# Altium footprint library PcbLib1.PcbLib: 29 footprints (part 1 of 2)
Each footprint in its own frame and in the unit in brackets; x right, y up, seen from the top. Pads: shape width x height; smd on the part's side, far side on the other; paste and mask are expansions set on the pad; w line width, h text height; cw(c..) or ccw(c..) is an arc to the next point about the centre after c.
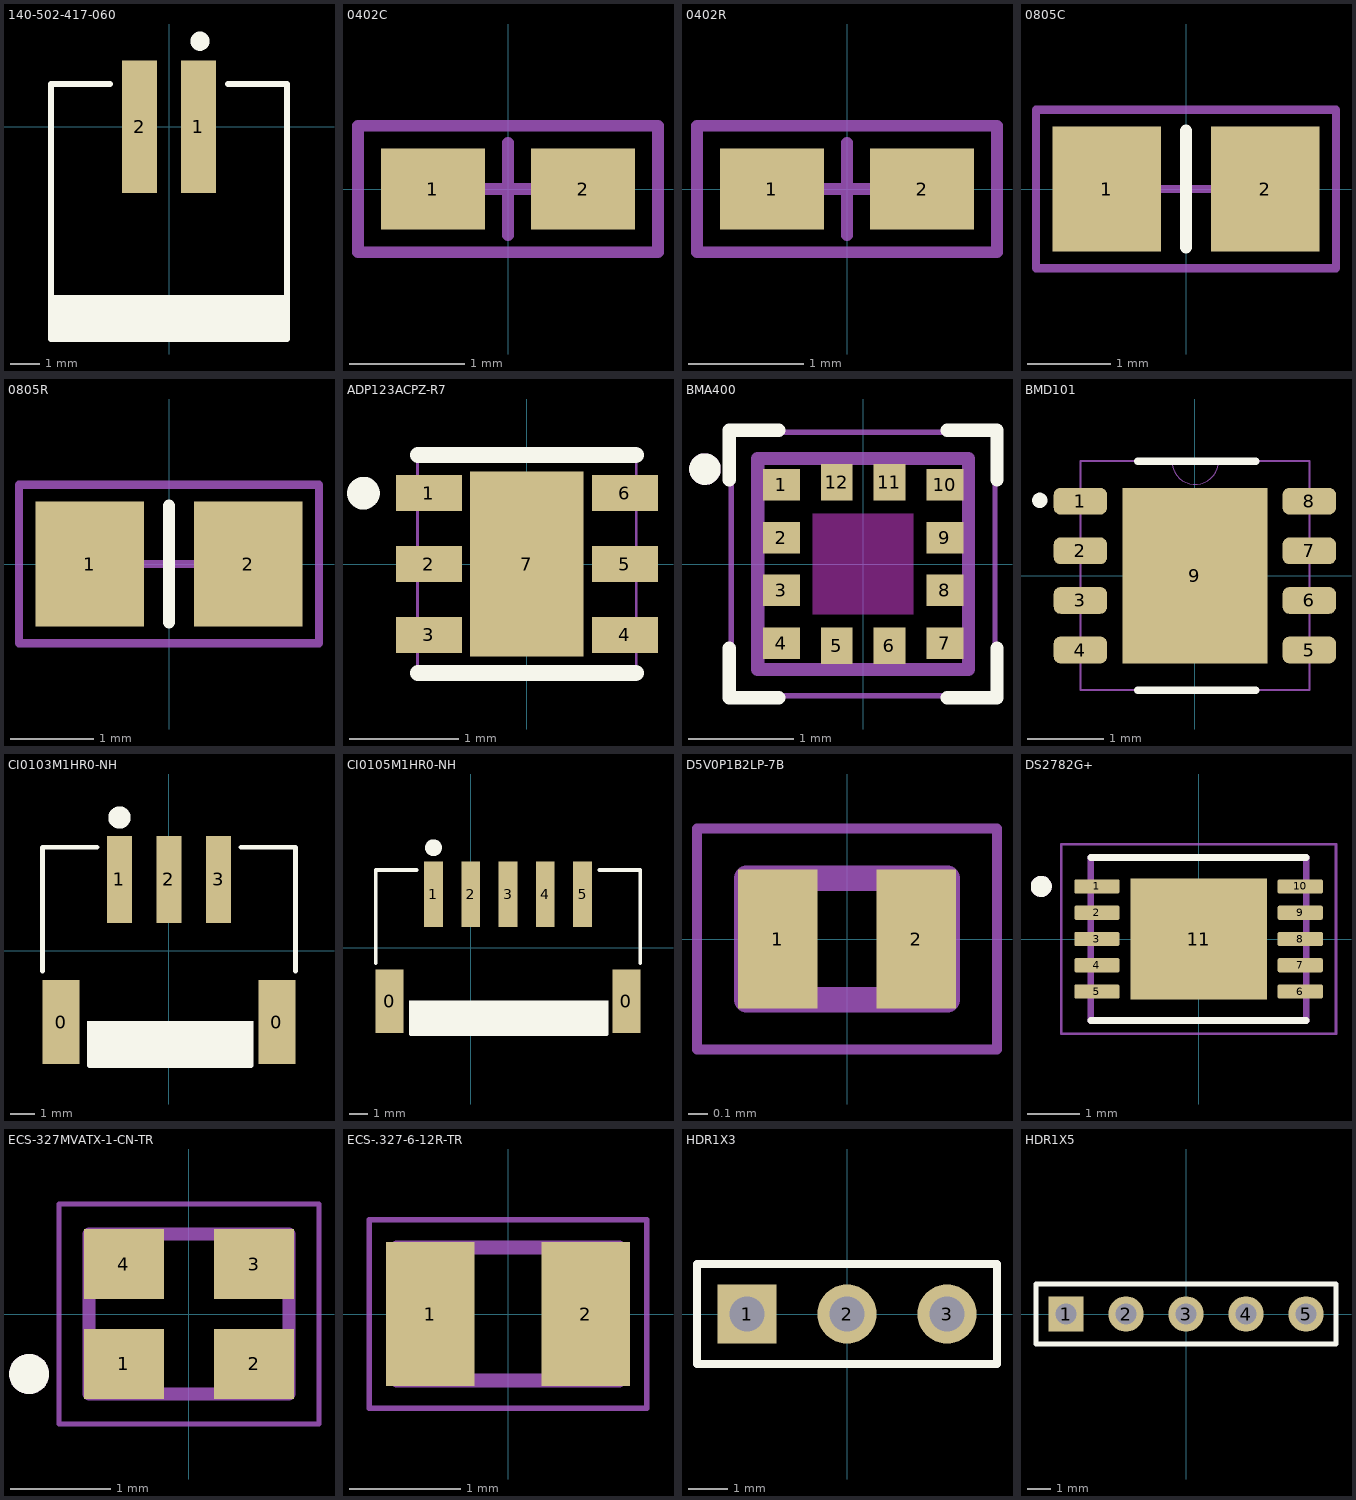
[diagram p0: the footprints below, top view; thin cyan lines are the x and y axes]

## 140-502-417-060 [mm]
pads (2):
  rect 1.2x4.5 smd: 1(1,0) 2(-1,0)
Top Overlay:
  circle w0.5: c1.05,2.9 r0.075
  rectangle: -4,-7.2 3.95,-5.7
  lines w0.2: -2,1.45 -4,1.45 -4,-7.2 4,-7.2 4,1.45 2,1.45
3D body "CON_2P_140-502-417-060.STEP": height 5.63, standoff 0.13, extent -4,-7.2 4,1.45

## 0402C [mm]
height 0.6
pads (2):
  rect 0.9x0.7 smd: 1(-0.65,0) 2(0.65,0)
Mechanical 5:
  lines w0.1: -1.3,-0.55 -1.3,0.55 1.3,0.55 1.3,-0.55 -1.3,-0.55
Mechanical 15:
  lines w0.1: -0.475,0 0.475,0 ; 0,-0.4 0,0.4 ; -1.3,-0.55 1.3,-0.55 1.3,0.55 -1.3,0.55 -1.3,-0.55
3D body "BO_CR0402.step": height 0.41, standoff 0, extent -0.559,-0.279 0.559,0.279

## 0402R [mm]
height 0.6
pads (2):
  rect 0.9x0.7 smd: 1(-0.65,0) 2(0.65,0)
Mechanical 5:
  lines w0.1: -1.3,-0.55 -1.3,0.55 1.3,0.55 1.3,-0.55 -1.3,-0.55
Mechanical 15:
  lines w0.1: -0.475,0 0.475,0 ; 0,-0.4 0,0.4 ; -1.3,-0.55 1.3,-0.55 1.3,0.55 -1.3,0.55 -1.3,-0.55
3D body "BO_CR0402.step": height 0.41, standoff 0, extent -0.559,-0.279 0.559,0.279

## 0805C [mm]
height 4.7
pads (2):
  rect 1.3x1.5 smd: 1(-0.95,0) 2(0.95,0)
Top Overlay:
  lines w0.15: 0,-0.7 0,0.7
Mechanical 5:
  lines w0.1: -1.8,-0.95 1.8,-0.95 1.8,0.95 -1.8,0.95 -1.8,-0.95
Mechanical 15:
  lines w0.1: -0.5,0 0.5,0 ; 0,-0.5 0,0.5 ; -1.8,-0.95 -1.8,0.95 1.8,0.95 1.8,-0.95 -1.8,-0.95

## 0805R [mm]
height 4.7
pads (2):
  rect 1.3x1.5 smd: 1(-0.95,0) 2(0.95,0)
Top Overlay:
  lines w0.15: 0,-0.7 0,0.7
Mechanical 5:
  lines w0.1: -1.8,-0.95 -1.8,0.95 1.8,0.95 1.8,-0.95 -1.8,-0.95
Mechanical 15:
  lines w0.1: -0.5,0 0.5,0 ; 0,-0.5 0,0.5 ; -1.8,-0.95 1.8,-0.95 1.8,0.95 -1.8,0.95 -1.8,-0.95

## ADP123ACPZ-R7 [mm]
pads (7):
  rect 0.606x0.331 smd paste+0 mask+0.03: 1(-0.9,0.65) 2(-0.9,0) 3(-0.9,-0.65) 4(0.9,-0.65) 5(0.9,0) 6(0.9,0.65)
  rect 1.041x1.702 smd paste+0 mask+0.03: 7(0,0)
Top Overlay:
  circle w0.2: c-1.5,0.65 r0.05
  lines w0.15: -1,-1 1,-1 ; -1,1 1,1
Mechanical 13:
  lines w0.025: -1.003,-1.003 -1.003,1.003 1.003,1.003 1.003,-1.003 -1.003,-1.003 ; -1.003,-0.828 -1.003,-0.472 -1.003,-0.828 ; -1.003,-0.178 -1.003,0.178 -1.003,-0.178 ; -1.003,0.472 -1.003,0.828 -1.003,0.472 ; 1.003,-0.828 1.003,-0.472 1.003,-0.828 ; 1.003,-0.178 1.003,0.178 1.003,-0.178 ; 1.003,0.472 1.003,0.828 1.003,0.472
3D body "CP_6_3_ADI.step": height 0.6, standoff 0, extent -1,-0.978 1.006,0.978

## BMA400 [mm]
pads (12):
  rect 0.35x0.3 smd paste+0 mask+0.05: 1(-0.775,0.75) 2(-0.775,0.25) 3(-0.775,-0.25) 4(-0.775,-0.75) 7(0.775,-0.75) 8(0.775,-0.25) 9(0.775,0.25) 10(0.775,0.75)
  rect 0.3x0.35 smd paste+0 mask+0.05: 5(-0.25,-0.775) 6(0.25,-0.775) 11(0.25,0.775) 12(-0.25,0.775)
Top Overlay:
  circle w0.15: c-1.5,0.9 r0.075
  lines w0.127: -1.27,-0.8 -1.27,-1.27 -0.8,-1.27 ; -1.27,0.8 -1.27,1.27 -0.8,1.27 ; 0.8,-1.27 1.27,-1.27 1.27,-0.8 ; 0.8,1.27 1.27,1.27 1.27,0.8
Top Paste:
  region: 0.375,0.625 0.125,0.625 0.125,0.925 0.375,0.925
  region: -0.125,0.625 -0.375,0.625 -0.375,0.925 -0.125,0.925
  region: 0.375,-0.925 0.125,-0.925 0.125,-0.625 0.375,-0.625
  region: -0.125,-0.925 -0.375,-0.925 -0.375,-0.625 -0.125,-0.625
  region: 0.925,-0.875 0.625,-0.875 0.625,-0.625 0.925,-0.625
  region: 0.925,-0.375 0.625,-0.375 0.625,-0.125 0.925,-0.125
  region: 0.925,0.125 0.625,0.125 0.625,0.375 0.925,0.375
  region: 0.925,0.625 0.625,0.625 0.625,0.875 0.925,0.875
  region: -0.625,0.625 -0.925,0.625 -0.925,0.875 -0.625,0.875
  region: -0.625,0.125 -0.925,0.125 -0.925,0.375 -0.625,0.375
  region: -0.625,-0.375 -0.925,-0.375 -0.925,-0.125 -0.625,-0.125
  region: -0.625,-0.875 -0.925,-0.875 -0.925,-0.625 -0.625,-0.625
Keep-Out Layer:
  region: 0.475,-0.475 -0.475,-0.475 -0.475,0.475 0.475,0.475
  region: 0.475,-0.475 -0.475,-0.475 -0.475,0.475 0.475,0.475
Mechanical 13:
  circle w0.15: c-1.5,0.9 r0.075
  lines w0.127: -1,-1 -1,1 1,1 1,-1 -1,-1
Mechanical 15:
  lines w0.05: -1.25,-1.25 -1.25,1.25 1.25,1.25 1.25,-1.25 -1.25,-1.25
3D body "BMA400.STEP": height 1, standoff 0, extent -0.99,-1.01 1.01,0.99

## BMD101 [mm]
pads (9):
  rrect50% 0.7x0.35 smd paste+0 mask+0.05: 1(-1.5,0.975) 2(-1.5,0.325) 3(-1.5,-0.325) 4(-1.5,-0.975) 5(1.5,-0.975) 6(1.5,-0.325) 7(1.5,0.325) 8(1.5,0.975)
  rect 1.9x2.3 smd paste+0 mask+0.05: 9(0,0)
Top Overlay:
  circle w0.1: c-2.032,0.987 r0.05
  lines w0.1: -0.75,-1.5 0.799,-1.5 ; -0.75,1.5 0.799,1.5
Mechanical 13:
  lines w0: -0.3,1.5 ccw(c0.005,1.5) 0.31,1.5
  lines w0.025: -1.5,-1.5 1.5,-1.5 1.5,1.5 -1.5,1.5 -1.5,-1.5

## CI0103M1HR0-NH [mm]
height 0.3
pads (5):
  rect 1.5x3.4 smd: 0(-4.35,-2.875) 0(4.35,-2.875)
  rect 1x3.5 smd: 1(-2,2.875) 2(0,2.875) 3(2,2.875)
Top Overlay:
  circle w0.5: c-2,5.375 r0.2
  region: 3.4,-2.825 -3.3,-2.825 -3.3,-4.625 3.4,-4.625
  lines w0.2: -5.1,-0.825 -5.1,4.175 -2.9,4.175 ; -3.2,-4.625 3.3,-4.625 ; 2.9,4.175 5.1,4.175 5.1,-0.825

## CI0105M1HR0-NH [mm]
height 0.3
pads (7):
  rect 1.5x3.4 smd: 0(-4.35,-2.875) 0(8.35,-2.875)
  rect 1x3.5 smd: 1(-2,2.875) 2(0,2.875) 3(2,2.875) 4(4,2.875) 5(6,2.875)
Top Overlay:
  circle w0.5: c-2,5.375 r0.2
  region: 7.4,-2.825 -3.3,-2.825 -3.3,-4.625 7.4,-4.625
  lines w0.2: -5.1,-0.825 -5.1,4.175 -2.9,4.175 ; -3.2,-4.625 7.3,-4.625 ; 6.9,4.175 9.1,4.175 9.1,-0.825

## D5V0P1B2LP-7B [mm]
height 0.53
pads (2):
  rect 0.4x0.7 smd: 1(-0.35,0) 2(0.35,0)
Mechanical 13:
  lines w0.127: -0.506,-0.306 -0.506,0.306 0.506,0.306 0.506,-0.306 -0.506,-0.306
Mechanical 15:
  lines w0.05: -0.757,-0.556 -0.757,0.556 0.757,0.556 0.757,-0.556 -0.757,-0.556

## DS2782G+ [mm]
pads (11):
  rrect25% 0.86x0.27 smd: 1(-1.935,1) 2(-1.935,0.5) 3(-1.935,0) 4(-1.935,-0.5) 5(-1.935,-1) 6(1.935,-1) 7(1.935,-0.5) 8(1.935,0) 9(1.935,0.5) 10(1.935,1)
  rect 2.6x2.3 smd paste-2: 11(0,0)
Top Overlay:
  circle w0.2: c-2.995,1 r0.1
  lines w0.127: -2.05,-1.55 2.05,-1.55 ; -2.05,1.55 2.05,1.55
Top Paste:
  region: 0.82,-0.73 -0.82,-0.73 -0.82,0.73 0.82,0.73
Mechanical 13:
  circle w0.2: c-2.995,1 r0.1
  lines w0.127: -2.05,-1.55 -2.05,1.55 2.05,1.55 2.05,-1.55 -2.05,-1.55
Mechanical 15:
  lines w0.05: -2.615,-1.8 -2.615,1.8 2.615,1.8 2.615,-1.8 -2.615,-1.8
3D body "DS2782G+.STEP": height 0.8, standoff 0, extent -2,-1.5 2,1.5

## ECS-327MVATX-1-CN-TR [mm]
pads (4):
  rect 0.8x0.7 smd: 1(-0.65,-0.5) 2(0.65,-0.5) 3(0.65,0.5) 4(-0.65,0.5)
Top Overlay:
  circle w0.2: c-1.6,-0.6 r0.1
Mechanical 13:
  circle w0.2: c-1.6,-0.6 r0.1
  lines w0.127: -1,-0.8 -1,0.8 1,0.8 1,-0.8 -1,-0.8
Mechanical 15:
  lines w0.05: -1.3,-1.1 -1.3,1.1 1.3,1.1 1.3,-1.1 -1.3,-1.1
3D body "ECS-327MVATX-1-CN-TR_ECS.step": height 0.89, standoff 0, extent -1.056,-0.851 1.056,0.851

## ECS-.327-6-12R-TR [mm]
pads (2):
  rect 0.8x1.3 smd: 1(-0.7,0) 2(0.7,0)
Mechanical 13:
  lines w0.127: -1,-0.6 1,-0.6 1,0.6 -1,0.6 -1,-0.6
Mechanical 15:
  lines w0.05: -1.25,-0.85 1.25,-0.85 1.25,0.85 -1.25,0.85 -1.25,-0.85

## HDR1X3 [mm] "Connector; Header; 5 Position"
pads (3):
  rect 1.5x1.5 hole 0.9: 1(-2.54,0)
  round 1.5 hole 0.9: 2(0,0) 3(2.54,0)
Top Overlay:
  lines w0.2: 3.76,-1.27 -3.81,-1.27 -3.81,1.27 3.81,1.27 3.81,-1.27

## HDR1X5 [mm] "Connector; Header; 5 Position"
pads (5):
  rect 1.5x1.5 hole 0.9: 1(-5.08,0)
  round 1.5 hole 0.9: 2(-2.54,0) 3(0,0) 4(2.54,0) 5(5.08,0)
Top Overlay:
  lines w0.2: -6.35,-1.27 6.35,-1.27 6.35,1.27 -6.35,1.27 -6.35,-1.27